# Altium schematic symbol library UZ_A_Testboard.SchLib: 17 symbols
Pins are listed as number, name and electrical type; pins without a type are passive.

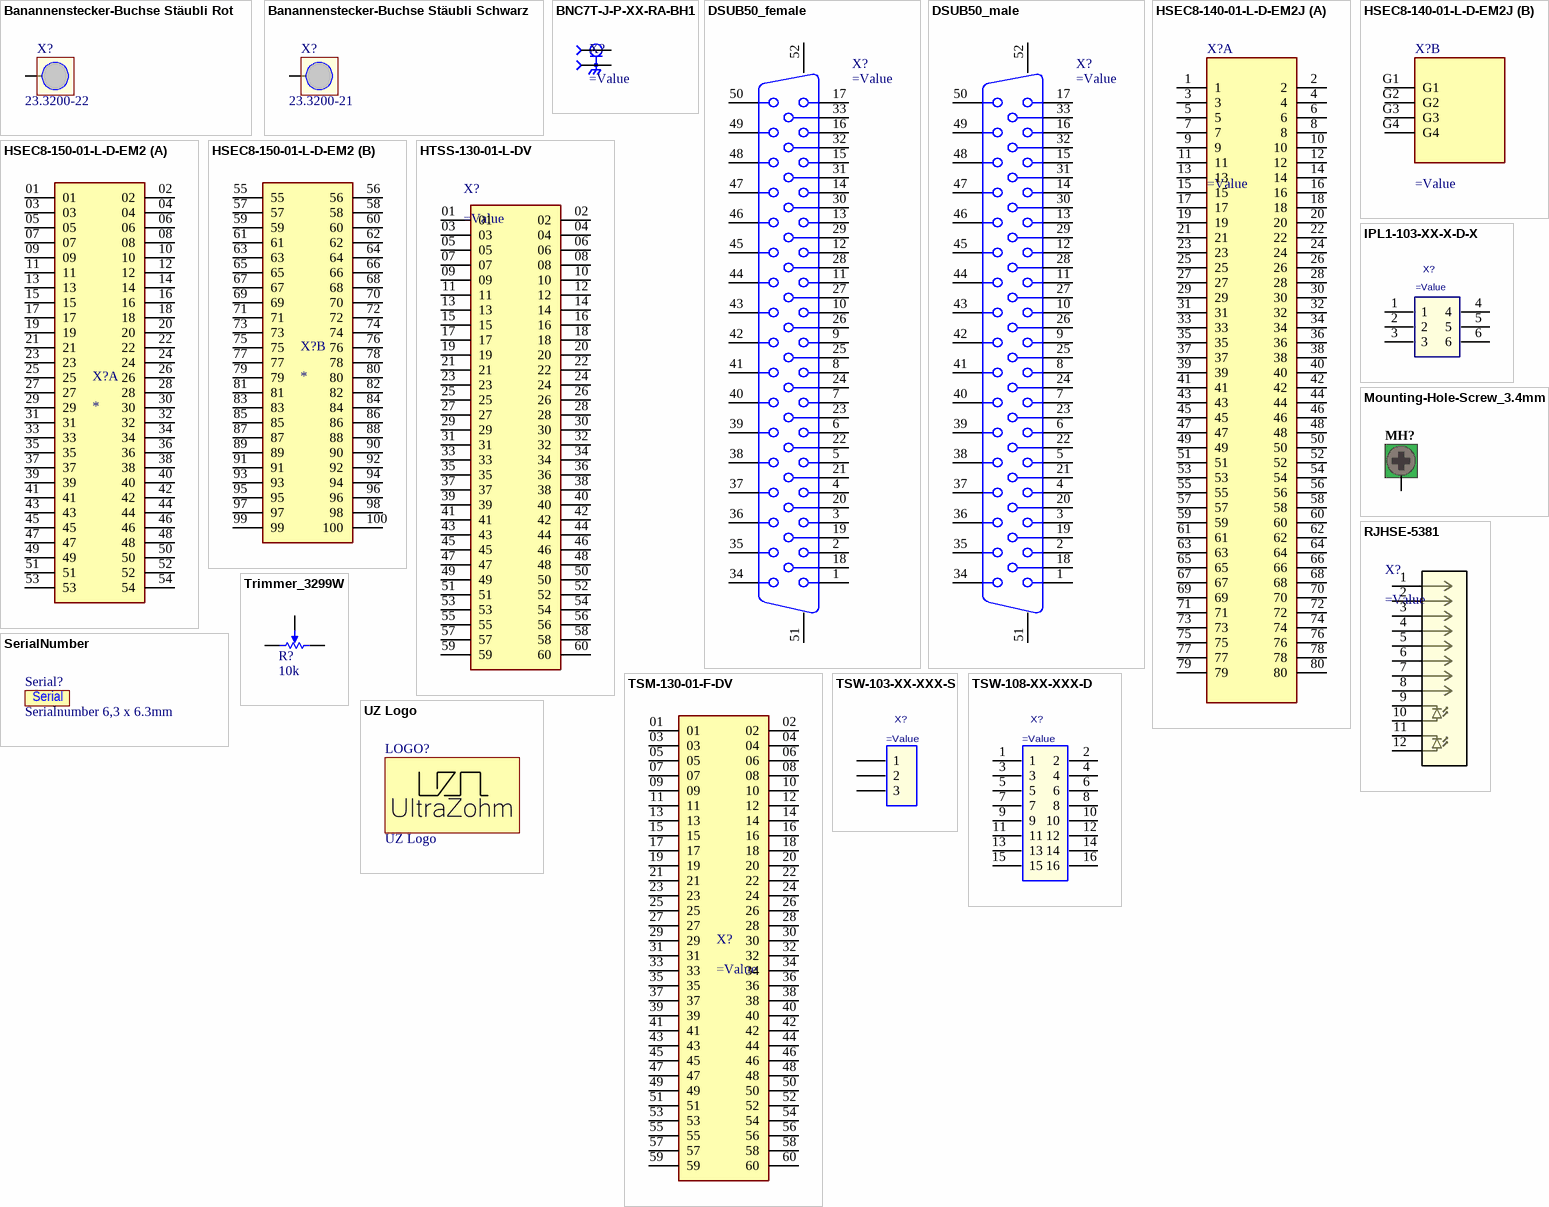
[diagram p0: symbols Banannenstecker-Buchse Stäubli Rot to UZ Logo]

## Banannenstecker-Buchse Stäubli Rot
designator X?, comment 23.3200-22
MULTI-CONTACT   23.3200-22   BANANA SOCKET, 24A, 4MM, THT, R/A, RED; Manufacturer: Stäubli; Voltage Rating: 1kV; Gender: Female; Part Number: 23.3200-22; PnP Value: 23.3200-22; Value: 23.3200-22; Supplier 1: Farnell; Manufacturer Part Number: 23.3200-22; RoHS: Yes; Category: Uncategorized; Stock 1: 1111; Pricing 1: 1=10,51000, 5=8,01000, 10=7,81000, 25=6,92000, 50=6,48000, 75=6,35000 (EUR); Color: Red; Contact Material: Brass,Gold; Contact Plating: Gold; Insulation Material: PVC; Min Operating Temperature: -40°C; Max Operating Temperature: 80°C; Current Rating: 24A; Connector Type: Socket; Termination: Through Hole; Voltage Rating (DC): 1kV; Voltage Rating (AC): 1kV; Length: 33mm; REACH SVHC: No SVHC; ComponentLink1URL: https://datasheet.ciiva.com/1123/308583-1123144.pdf?src-supplier=Newark; ComponentLink1Description: https://datasheet.ciiva.com/1123/308583-1123144.pdf?src-supplier=Newark; ComponentLink2URL: https://datasheet.ciiva.com/16979/0900766b8025b994-16979960.pdf?src-supplier=Allied+Electronics; ComponentLink2Description: https://datasheet.ciiva.com/16979/0900766b8025b994-16979960.pdf?src-supplier=Allied+Electronics; ComponentLink3URL: https://datasheet.ciiva.com/29247/731096-da-01-ml-4-mm-einbaub-slb4i-90-rot-de-en-fr-29247831.pdf?src-supplier=Conrad; ComponentLink3Description: https://datasheet.ciiva.com/29247/731096-da-01-ml-4-mm-einbaub-slb4i-90-rot-de-en-fr-29247831.pdf?src-supplier=Conrad; PnP Package: BANANA SOCKET; Supplier Part Number 1: 4130261
footprint Bannanenbuchse Rot Stäubli 23.3200-22 (Bananenstecker-Buchse, 4mm, Leiterplattenmontage, 24 A, 1 kV)
pins: 1
1 alternate drawing of the same symbol

## Banannenstecker-Buchse Stäubli Schwarz
designator X?, comment 23.3200-21
MULTI-CONTACT   23.3200-21   BANANA SOCKET, 24A, 4MM, THT, R/A, Black; Manufacturer: Stäubli; Voltage Rating: 1kV; Gender: Female; Part Number: 23.3200-21; PnP Value: 23.3200-21; Value: 23.3200-21; Manufacturer Part Number: 23.3200-21; RoHS: Yes; Category: Uncategorized; Color: Black; Contact Material: Brass,Gold; Contact Plating: Gold; Insulation Material: PVC; Min Operating Temperature: -40°C; Max Operating Temperature: 80°C; Current Rating: 24A; Connector Type: Socket; Termination: Through Hole; Voltage Rating (DC): 1kV; Voltage Rating (AC): 1kV; Length: 33mm; REACH SVHC: No SVHC; ComponentLink1URL: https://datasheet.ciiva.com/1123/308583-1123144.pdf?src-supplier=Newark; ComponentLink1Description: https://datasheet.ciiva.com/1123/308583-1123144.pdf?src-supplier=Newark; ComponentLink2URL: https://datasheet.ciiva.com/16979/0900766b8025b994-16979960.pdf?src-supplier=Allied+Electronics; ComponentLink2Description: https://datasheet.ciiva.com/16979/0900766b8025b994-16979960.pdf?src-supplier=Allied+Electronics; ComponentLink3URL: https://datasheet.ciiva.com/29247/731096-da-01-ml-4-mm-einbaub-slb4i-90-rot-de-en-fr-29247831.pdf?src-supplier=Conrad; ComponentLink3Description: https://datasheet.ciiva.com/29247/731096-da-01-ml-4-mm-einbaub-slb4i-90-rot-de-en-fr-29247831.pdf?src-supplier=Conrad; PnP Package: BANANA SOCKET; Supplier 1: Farnell; Supplier Part Number 1: 1085521
footprint Bannanenbuchse Schwarz Stäubli 23.3200-21 (Bananenstecker-Buchse, 4mm, Leiterplattenmontage, 24 A, 1 kV)
pins: 1
1 alternate drawing of the same symbol

## BNC7T-J-P-XX-RA-BH1
designator X?
BNC Connector Jack, Female Socket 75Ohm Panel Mount, Through Hole, Right Angle Solder; MPN: BNC7T-J-P-HN-RA-BH1; MF: Samtec; Value: BNC7T-J-P-HN-RA-BH1; Package: BNC; Created: 2021_04_06_AGeiger; ComponentLink1Description: Datasheet; ComponentLink1URL: https://suddendocs.samtec.com/catalog_english/bnc7t.pdf; ComponentLink2Description: URL; ComponentLink2URL: https://www.samtec.com/products/bnc7t-j-p-gn-ra-bh1
footprint SAMTEC_BNC7T-J-P-XX-RA-BH1
pins: 1, S1 2, S2 2, S3 2, S4 2

## DSUB50_female
designator X?
D-SUB, female, right angle, 50pos, 9.4mm pitch; MPN: 164A18759X; MF: CONEC; Value: 164A18759X; Supplier Part Number 1: D-SUB BU 50GWC; ComponentLink1Description: Datasheet; ComponentLink1URL: http://www.conec.com/catalog/media/conec/DRAWINGS/164A18759X.pdf; Supplier Part Number 2: 706-164A18759X; Supplier 1: Reichelt; Supplier 2: Mouser; Supplier 3: Digi-Key; Supplier Part Number 3: 164A18759X-ND; Created: 2019_10_24_AGeiger
footprint dsub50_female_164A18759X
pins: 1, 2, 3, 4, 5, 6, 7, 8, 9, 10, 11, 12, 13, 14, 15, 16, 17, 18, 19, 20, 21, 22, 23, 24, 25, 26, 27, 28, 29, 30, 31, 32, 33, 34, 35, 36, 37, 38, 39, 40, 41, 42, 43, 44, 45, 46, 47, 48, 49, 50, 51, 52

## DSUB50_male
designator X?
D-SUB, male, right angle, 50pos, 9.4mm pitch; MPN: 163A18339X; MF: CONEC; Value: 163A18339X; Supplier Part Number 1: D-SUB ST 50GWC; Supplier 1: Reichelt; Supplier 2: Mouser; Supplier 3: Digi-Key; Created: 2021_03_25_AGeiger
footprint dsub50_male_163A18339X
pins: 1, 2, 3, 4, 5, 6, 7, 8, 9, 10, 11, 12, 13, 14, 15, 16, 17, 18, 19, 20, 21, 22, 23, 24, 25, 26, 27, 28, 29, 30, 31, 32, 33, 34, 35, 36, 37, 38, 39, 40, 41, 42, 43, 44, 45, 46, 47, 48, 49, 50, 51, 52

## HSEC8-140-01-L-D-EM2J
designator X?
80 Position Female Connector Non Specified - Dual Edge Gold 0.031" (0.80mm) Black; MPN: HSEC8-140-01-L-D-EM2; MF: SAMTEC; Value: HSEC8-140-01-L-D-EM2; Created: 2021_04_07_AGeiger
footprint HSEC8-140-01-L-D-EM2
part A pins: 1, 2, 3, 4, 5, 6, 7, 8, 9, 10, 11, 12, 13, 14, 15, 16, 17, 18, 19, 20, 21, 22, 23, 24, 25, 26, 27, 28, 29, 30, 31, 32, 33, 34, 35, 36, 37, 38, 39, 40, 41, 42, 43, 44, 45, 46, 47, 48, 49, 50, 51, 52, 53, 54, 55, 56, 57, 58, 59, 60, 61, 62, 63, 64, 65, 66, 67, 68, 69, 70, 71, 72, 73, 74, 75, 76, 77, 78, 79, 80
part B pins: G1 (power), G2 (power), G3 (power), G4 (power)

## HSEC8-150-01-L-D-EM2
designator X?
100 Position Female Connector Non Specified - Dual Edge Gold 0.031" (0.80mm) Black; MF: Samtec; Value: HSEC8-150-01-L-D-EM2; MPN: HSEC8-150-01-L-D-EM2; Created: 2021_03_24_AGeiger
footprint HSEC8-150-01-L-D-EM2
part A pins: 01, 02, 03, 04, 05, 06, 07, 08, 09, 10, 11, 12, 13, 14, 15, 16, 17, 18, 19, 20, 21, 22, 23, 24, 25, 26, 27, 28, 29, 30, 31, 32, 33, 34, 35, 36, 37, 38, 39, 40, 41, 42, 43, 44, 45, 46, 47, 48, 49, 50, 51, 52, 53, 54
part B pins: 55, 56, 57, 58, 59, 60, 61, 62, 63, 64, 65, 66, 67, 68, 69, 70, 71, 72, 73, 74, 75, 76, 77, 78, 79, 80, 81, 82, 83, 84, 85, 86, 87, 88, 89, 90, 91, 92, 93, 94, 95, 96, 97, 98, 99, 100

## HTSS-130-01-L-DV
designator X?
MF: SAMTEC; Value: HTSS-130-01-L-DV; MPN: HTSS-130-01-L-DV
footprint HTSS-130-01-L-DV
pins: 01, 02, 03, 04, 05, 06, 07, 08, 09, 10, 11, 12, 13, 14, 15, 16, 17, 18, 19, 20, 21, 22, 23, 24, 25, 26, 27, 28, 29, 30, 31, 32, 33, 34, 35, 36, 37, 38, 39, 40, 41, 42, 43, 44, 45, 46, 47, 48, 49, 50, 51, 52, 53, 54, 55, 56, 57, 58, 59, 60

## IPL1-103-XX-X-D-X
designator X?
2.54mm Double Row Terminal Assembly; MF: SAMTEC; Created: 2018_05_02_AGeiger; Value: =MPN
footprint IPL1-103-01-L-D-K
footprint IPL1-103-01-L-D-RA-K
pins: 1, 2, 3, 4, 5, 6

## Mounting-Hole-Screw_3.4mm
designator MH?, comment Mounting-Hole-RND-Altium  (value not drawn)  (no BOM)
Mounting Hole, Altium, 4.4mm pad, 3.4mm plated hole; ClassName: Mounting Hole; Created: 2018_09_18_AGeiger
footprint Mounting-Hole-RND-Altium (Mounting Hole, Altium, 4.4mm pad, 3.4mm plated hole)
pins: 1 hidden, MOUNT

## RJHSE-5381
designator X?
RJ45 without integrated trafos; MF: Amphenol; OperationTempMin: -55°C; OperationTempMax: +85°C; MPN: RJHSE-5381; Created: 2021_03_11_AGeiger; Supplier 1: Mouser; Supplier Part Number 1: 523-RJHSE-5381; ComponentLink1Description: Datasheet; ComponentLink1URL: https://cdn.amphenol-icc.com/media/wysiwyg/files/drawing/rjhse538x.pdf; Value: RJHSE-5381; Package: RJ45
footprint RJ45_RJHSE-5384_AMP
pins: 1, 2, 3, 4, 5, 6, 7, 8, 9, 10, 11, 12

## SerialNumber
designator Serial?, comment Serialnumber 6,3 x 6.3mm  (no BOM)
Created: 2018_09_18_AGeiger; Value: Serialnumber 6,3 x 6.3mm
footprint Serial_6.3x6.3mm
text: Serial

## Trimmer_3299W
designator R?, comment 10k
Square Trimpot(R) Trimming Potentiometer, 10kOhm, +/- 10%, 500 mW, -55 to 125 degC, 3-Pin THD, RoHS, Tube; MPN: 3299W-1-103LF; MF: Bourns; Value: 10k; ComponentLink1Description: Datasheet; ComponentLink1URL: http://www.bourns.com/docs/Product-Datasheets/3299.pdf; Supplier 1: Mouser; Supplier Part Number 1: 652-3299W-1-103LF; Created: 2020_12_15_AGeiger
footprint BOURNS_3299W-3_V (TH, 3-Leads, Body 9.53x6.4mm, Pitch 2.54mm)
pins: 1, 2, 3

## TSM-130-01-F-DV
designator X?
MPN: TSM-130-01-F-DV; MF: Samtec; Value: TSM-130-01-F-DV; Created: 2021_03_23_AGeiger
footprint TSM-130-01-F-DV
pins: 01, 02, 03, 04, 05, 06, 07, 08, 09, 10, 11, 12, 13, 14, 15, 16, 17, 18, 19, 20, 21, 22, 23, 24, 25, 26, 27, 28, 29, 30, 31, 32, 33, 34, 35, 36, 37, 38, 39, 40, 41, 42, 43, 44, 45, 46, 47, 48, 49, 50, 51, 52, 53, 54, 55, 56, 57, 58, 59, 60

## TSW-103-XX-XXX-S
designator X?
.025[0.64] SQ. POST TERMINAL STRIP ASSEMBLY.; Manufacturer: SAMTEC; Manufacturer Part Number: TSW-103-07-F-S; Created: 2020_11_26_AGeiger; Value: ='Manufacturer Part Number'
footprint TSW-103-XX-XXX-S (Footprint not found)
pins: 1, 2, 3

## TSW-108-XX-XXX-D
designator X?
Pin Header, 2.54mm; MPN: TSW-108-07-F-D; MF: SAMTEC; Value: TSW-108-07-F-D; Created: 2019_02_10_AGeiger
footprint TSW-108-XX-XXX-D (Pinheader, 2.54mm Pitch)
pins: 1, 2, 3, 4, 5, 6, 7, 8, 9, 10, 11, 12, 13, 14, 15, 16

## UZ Logo
designator LOGO?  (no BOM)
UltraZohm Logo on PCB; Created: Jan2021_Liegmann; Value: UZ Logo
footprint UZ_Logo_large (logo width 6cm)
footprint UZ_Logo_medium (logo width 4.5cm)
footprint UZ_Logo_small (logo width 3cm)
footprint UZ_Logo_tiny (logo width 2cm)